# Altium schematic symbol library OLED12836.SchLib: 1 symbol
Pins are listed as number, name and electrical type; pins without a type are passive.

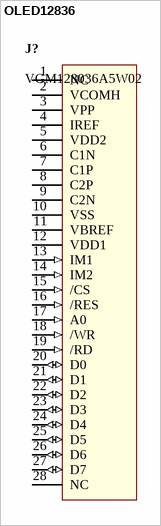
[diagram p0: symbol OLED12836]

## OLED12836
designator J?, comment VGM128036A5W02
monochrome OLED display module with 128×36 dot matrix.
pins: 1 NC, 2 VCOMH (power), 3 VPP (power), 4 IREF, 5 VDD2 (power), 6 C1N, 7 C1P, 8 C2P, 9 C2N, 10 VSS (power), 11 VBREF (power), 12 VDD1 (power), 13 IM1 (in), 14 IM2 (in), 15 /CS (in), 16 /RES (in), 17 A0 (in), 18 /WR (in), 19 /RD (in), 20 D0 (io), 21 D1 (io), 22 D2 (io), 23 D3 (io), 24 D4 (io), 25 D5 (io), 26 D6 (io), 27 D7 (io), 28 NC